# EAGLE library part 218-108 (library JLB6_Connec)
Wago 8 position CAGE CLAMP slide switch
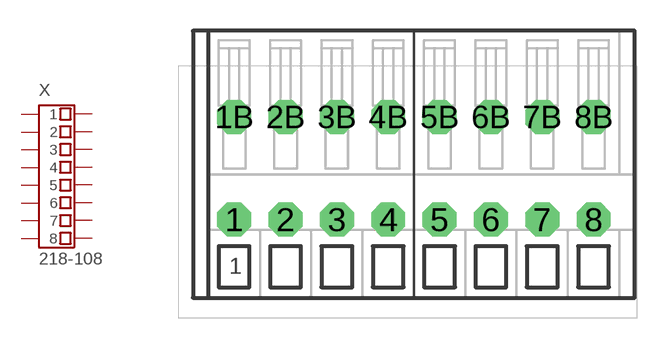
[diagram p62: symbol with the pads of 218-108-ROUND-250; footprint 218-108-ROUND-250]

Designator prefix X

## 218-108  [218-108-ROUND-250]
1  1  pas
1B  B-1  pas
2  2  pas
2B  B-2  pas
3  3  pas
3B  B-3  pas
4  4  pas
4B  B-4  pas
5  5  pas
5B  B-5  pas
6  6  pas
6B  B-6  pas
7  7  pas
7B  B-7  pas
8  8  pas
8B  B-8  pas

## Footprint 218-108-ROUND-250 (pad centres in mm)
drill 1.1 octagon: 1 -8.75,-2.5; 1B -8.75,2.5; 2 -6.25,-2.5; 2B -6.25,2.5; 3 -3.75,-2.5; 3B -3.75,2.5; 4 -1.25,-2.5; 4B -1.25,2.5; 5 1.25,-2.5; 5B 1.25,2.5; 6 3.75,-2.5; 6B 3.75,2.5; 7 6.25,-2.5; 7B 6.25,2.5; 8 8.75,-2.5; 8B 8.75,2.5